# Altium integrated library NSC Legacy.IntLib: 687 symbols (part 3 of 17)
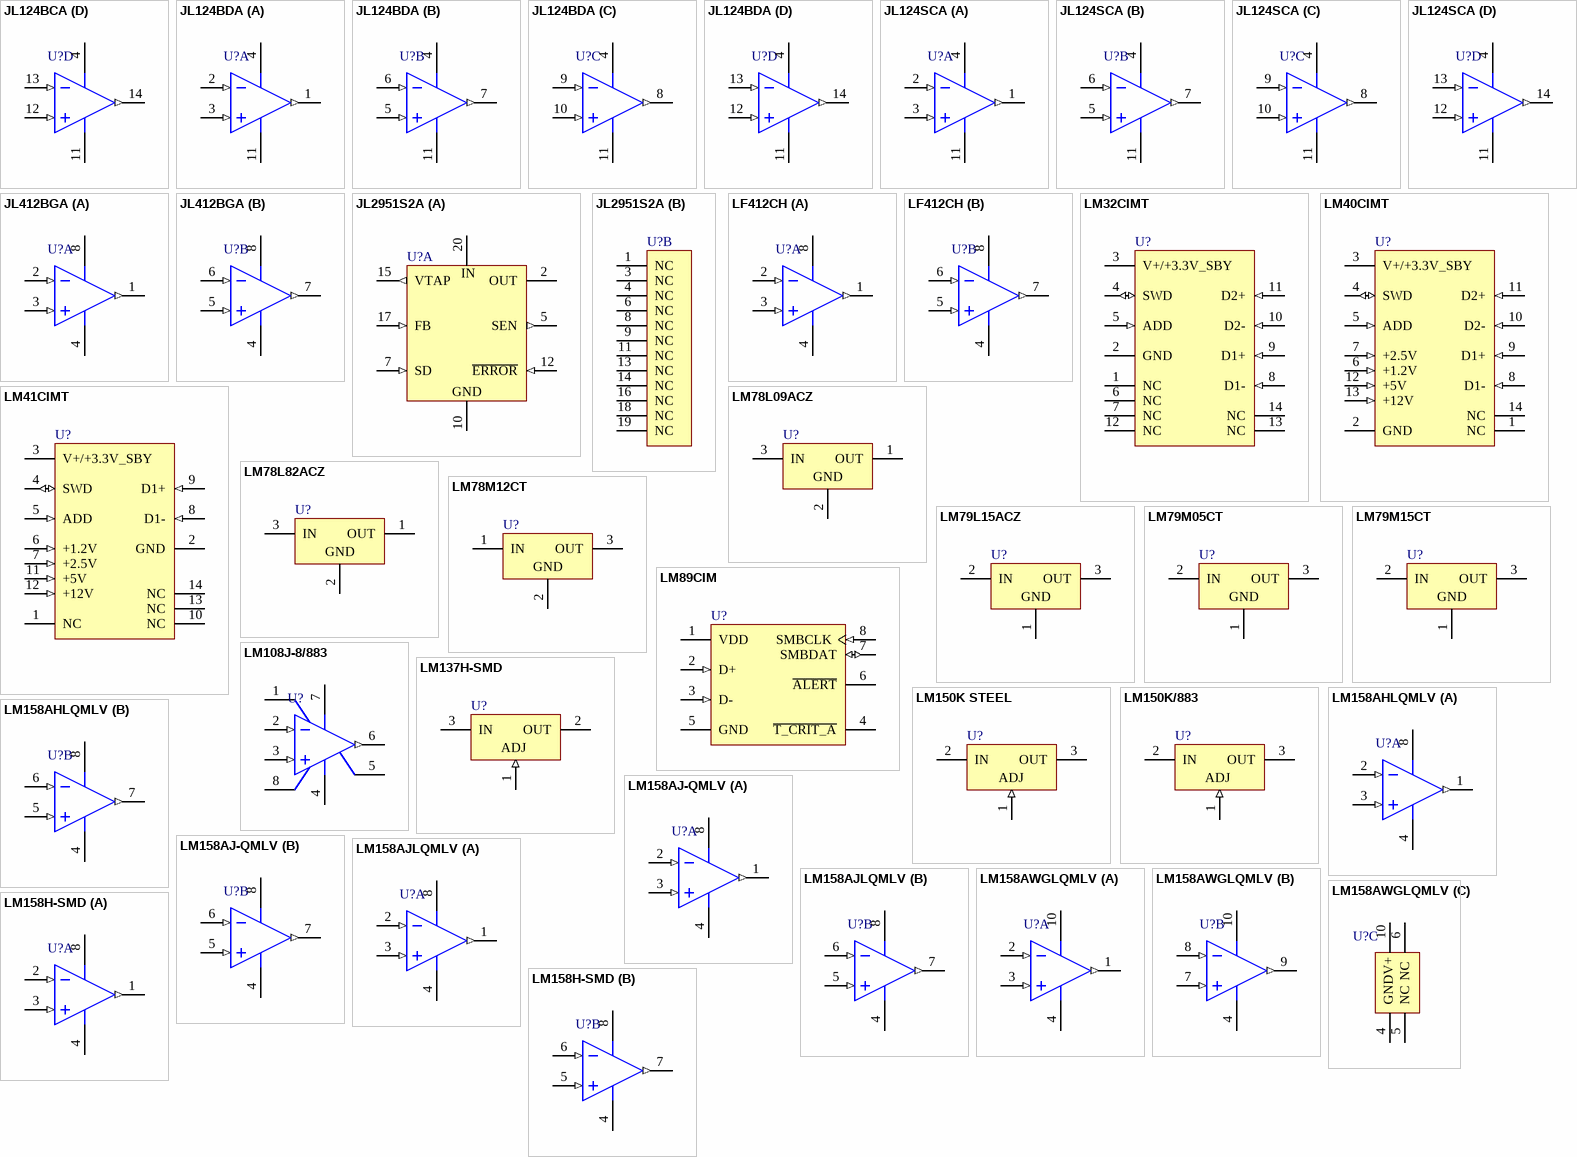
[diagram p26: symbols JL124BCA to LM158H-SMD]

## JL124BCA
designator U?
Low Power Quad Operational Amplifier, 14-pin CerDIP; PartNumber: JL124BCA; Manufacturer: National Semiconductor; PackageTopMarking: NS ZSSXXYYA*JM38510/11005BCA*27014 Q; CompType: Amplifiers; Published: 4-Dec-2008; DatasheetVersion: Aug-2000; PackageVersion: revJ, Jul-2002; PackageReference: J14A; Publisher: Altium Limited; PackageDescription: Cerdip, .400 x .310in Body, 14 Lead, .300in Centers, .100in Pitch; RoHS: N; PinCount: 14; ComponentLink1Description: LM124 Datasheet; ComponentLink1URL: http://www.national.com/ds/LM/LM124.pdf; ComponentLink2Description: LM124 Web Page; ComponentLink2URL: http://www.national.com/pf/LM/LM124.html; ComponentLink3Description: J14A Package Page; ComponentLink3URL: http://www.national.com/packaging/folders/j14a.html
footprint J14A (DIP, 14-Leads, Row Spacing 7.62mm, Pitch 2.54mm, Body 19.56x6.73mm)
pins on every part: 4 V+ (power), 11 GND (power)
part A pins: 1 OUT1 (out), 2 IN1- (in), 3 IN1+ (in)
part B pins: 5 IN2+ (in), 6 IN2- (in), 7 OUT2 (out)
part C pins: 8 OUT3 (out), 9 IN3- (in), 10 IN3+ (in)
part D pins: 12 IN4+ (in), 13 IN4- (in), 14 OUT4 (out)

## JL124BDA
designator U?
Low Power Quad Operational Amplifier, 14-pin CerPACK; PartNumber: JL124BDA; Manufacturer: National Semiconductor; PackageTopMarking: NSZSSXXYYA*JM38510/*11005BDA*27014 Q; CompType: Amplifiers; Published: 4-Dec-2008; DatasheetVersion: Aug-2000; PackageVersion: revP, Jun-2004; PackageReference: W14B; Publisher: Altium Limited; PackageDescription: Cerpack, .390 x .250 x .070in Body, 14 Lead, .050in Pitch; RoHS: N; PinCount: 14; Code_JEDEC: MO-092-AB; ComponentLink1Description: LM124 Datasheet; ComponentLink1URL: http://www.national.com/ds/LM/LM124.pdf; ComponentLink2Description: LM124 Web Page; ComponentLink2URL: http://www.national.com/pf/LM/LM124.html; ComponentLink3Description: W14B Package Page; ComponentLink3URL: http://www.national.com/packaging/folders/w14b.html
footprint W14B (DFP; 14 Leads; Body 9.8 x 7.1 mm (LxW max); Pitch 1.27 mm)
pins on every part: 4 V+ (power), 11 GND (power)
part A pins: 1 OUT1 (out), 2 IN1- (in), 3 IN1+ (in)
part B pins: 5 IN2+ (in), 6 IN2- (in), 7 OUT2 (out)
part C pins: 8 OUT3 (out), 9 IN3- (in), 10 IN3+ (in)
part D pins: 12 IN4+ (in), 13 IN4- (in), 14 OUT4 (out)

## JL124SCA
designator U?
Low Power Quad Operational Amplifier, 14-pin CerDIP; PartNumber: JL124SCA; Manufacturer: National Semiconductor; PackageTopMarking: NS ZSSXXYYA*JM38510/11005SCA*27014 Q; CompType: Amplifiers; Published: 4-Dec-2008; DatasheetVersion: Aug-2000; PackageVersion: revJ, Jul-2002; PackageReference: J14A; Publisher: Altium Limited; PackageDescription: Cerdip, .400 x .310in Body, 14 Lead, .300in Centers, .100in Pitch; RoHS: N; PinCount: 14; ComponentLink1Description: LM124 Datasheet; ComponentLink1URL: http://www.national.com/ds/LM/LM124.pdf; ComponentLink2Description: LM124 Web Page; ComponentLink2URL: http://www.national.com/pf/LM/LM124.html; ComponentLink3Description: J14A Package Page; ComponentLink3URL: http://www.national.com/packaging/folders/j14a.html
footprint J14A (DIP, 14-Leads, Row Spacing 7.62mm, Pitch 2.54mm, Body 19.56x6.73mm)
pins on every part: 4 V+ (power), 11 GND (power)
part A pins: 1 OUT1 (out), 2 IN1- (in), 3 IN1+ (in)
part B pins: 5 IN2+ (in), 6 IN2- (in), 7 OUT2 (out)
part C pins: 8 OUT3 (out), 9 IN3- (in), 10 IN3+ (in)
part D pins: 12 IN4+ (in), 13 IN4- (in), 14 OUT4 (out)

## JL412BGA
designator U?
Low Offset, Low Drift Dual JFET Input Operational Amplifier, 8-pin TO-99; PartNumber: JL412BGA; Manufacturer: National Semiconductor; PackageTopMarking: NS ZSSXXYYA 27014 Q*JM38510/11905BGA; CompType: Amplifiers; Published: 4-Dec-2008; DatasheetVersion: Aug-2000; PackageVersion: revF, Jun-1995; PackageReference: H08C; Publisher: Altium Limited; PackageDescription: Metal Can, TO-99, 8 Lead, .200 Dia., P.C.; RoHS: N; PinCount: 8; Code_JEDEC: TO-99; ComponentLink1Description: LF412 Datasheet; ComponentLink1URL: http://www.national.com/ds/LF/LF412.pdf; ComponentLink2Description: LF412 Web Page; ComponentLink2URL: http://www.national.com/pf/LF/LF412.html; ComponentLink3Description: H08C Package Page; ComponentLink3URL: http://www.national.com/packaging/folders/h08c.html
footprint H08C (Can; 8 Leads; Pin Circle Dia. 5.08 mm; Lead Dia. 0.48 mm (max))
pins on every part: 4 V- (power), 8 V+ (power)
part A pins: 1 OUTA (out), 2 INA- (in), 3 INA+ (in)
part B pins: 5 INB+ (in), 6 INB- (in), 7 OUTB (out)

## JL2951S2A
designator U?
Adjustable Micropower Voltage Regulator, 20-pin LCC; PartNumber: JL2951S2A; Manufacturer: National Semiconductor; PackageTopMarking: NSZSSXXYYA*27014 Q*5962-*3870501S2A; CompType: MiscPower; Published: 4-Dec-2008; DatasheetVersion: Jan-1997; PackageVersion: revF, May-2004; PackageReference: E20A; Publisher: Altium Limited; PackageDescription: Leadless Chip Carrier, Type C, 20 Terminal; RoHS: N; PinCount: 20; Code_JEDEC: MS-004-CB; ComponentLink1Description: LP2951 Datasheet; ComponentLink1URL: http://www.national.com/mds/LP/MJLP2951-X.pdf; ComponentLink2Description: LP2951 Web Page; ComponentLink2URL: http://www.national.com/pf/LP/LP2951.html; ComponentLink3Description: E20A Package Page; ComponentLink3URL: http://www.national.com/packaging/folders/e20a.html
footprint E20A_N (Leadless Chip Carrier, 20-Leads, Body 8.9x8.9mm, Pitch 1.27mm, IPC Medium Density)
footprint E20A_L (Leadless Chip Carrier, 20-Leads, Body 8.9x8.9mm, Pitch 1.27mm, IPC High Density)
footprint E20A_M (Leadless Chip Carrier, 20-Leads, Body 8.9x8.9mm, Pitch 1.27mm, IPC Low Density)
part A pins: 2 OUT (power), 5 SEN (out), 7 SD (in), 10 GND (power), 12 ~{ERROR} (in), 15 VTAP (out), 17 FB (in), 20 IN (power)
part B pins: 1 NC, 3 NC, 4 NC, 6 NC, 8 NC, 9 NC, 11 NC, 13 NC, 14 NC, 16 NC, 18 NC, 19 NC

## LF412CH
designator U?
Low Offset, Low Drift Dual JFET Input Operational Amplifier, 8-pin TO-5; PartNumber: LF412CH; Manufacturer: National Semiconductor; PackageTopMarking: NSZXYTTE# LF412CH; CompType: Amplifiers; Published: 4-Dec-2008; DatasheetVersion: Aug-2000; PackageVersion: revC, Sep-1988; PackageReference: H08A; Publisher: Altium Limited; PackageDescription: 8 Lead, .230in Dia., P.C. Metal Can Package (H); RoHS: Y; PinCount: 8; ComponentLink1Description: LF412 Datasheet; ComponentLink1URL: http://www.national.com/ds/LF/LF412.pdf; ComponentLink2Description: LF412 Web Page; ComponentLink2URL: http://www.national.com/pf/LF/LF412.html; ComponentLink3Description: H08A Package Page; ComponentLink3URL: http://www.national.com/packaging/folders/h08a.html
footprint H08A (Can; 8 Leads; Pin Circle Dia. 5.84 mm; Lead Dia. 0.48 mm (max))
pins on every part: 4 V- (power), 8 V+ (power)
part A pins: 1 OUTA (out), 2 INA- (in), 3 INA+ (in)
part B pins: 5 INB+ (in), 6 INB- (in), 7 OUTB (out)

## LM32CIMT
designator U?
Dual Thermal Diode Temperature Sensor with SensorPath Bus, 14-pin TSSOP; PartNumber: LM32CIMT; Manufacturer: National Semiconductor; PackageTopMarking: NSZXYTT*LM32*CIMT; CompType: Temp Sensor IC; Published: 4-Dec-2008; DatasheetVersion: May-2004; PackageVersion: revD, Jun-2003; PackageReference: MTC14; Publisher: Altium Limited; PackageDescription: Molded TSSOP, JEDEC, 5 x 4.4 x 0.9mm Body, 14 Lead, 0.65mm Pitch; Supplier 1: Farnell; Supplier Part Number 1: 8181780; RoHS: Y; PinCount: 14; Code_JEDEC: MO-153-AB-1; ComponentLink1Description: LM32 Datasheet; ComponentLink1URL: http://www.national.com/ds.cgi/LM/LM32.pdf; ComponentLink2Description: LM32 Web Page; ComponentLink2URL: http://www.national.com/pf/LM/LM32.html; ComponentLink3Description: MTC14 Package Page; ComponentLink3URL: http://www.national.com/packaging/folders/mtc14.html
footprint MTC14_N (TSOP, 14-Leads, Body 5x4.4mm, Pitch 0.65mm, IPC Medium Density)
footprint MTC14_L (TSOP, 14-Leads, Body 5x4.4mm, Pitch 0.65mm, IPC High Density)
footprint MTC14_M (TSOP, 14-Leads, Body 5x4.4mm, Pitch 0.65mm, IPC Low Density)
pins: 1 NC, 2 GND (power), 3 V+/+3.3V_SBY (power), 4 SWD (io), 5 ADD (in), 6 NC, 7 NC, 8 D1- (in), 9 D1+ (in), 10 D2- (in), 11 D2+ (in), 12 NC, 13 NC, 14 NC

## LM40CIMT
designator U?
Hardware Monitor with Dual Thermal Diodes and SensorPath Bus, 14-pin TSSOP; PartNumber: LM40CIMT; Manufacturer: National Semiconductor; PackageTopMarking: NSZXYTT*LM40*CIMT; CompType: Temp Sensor IC; Published: 4-Dec-2008; DatasheetVersion: May-2004; PackageVersion: revD, Jun-2003; PackageReference: MTC14; Publisher: Altium Limited; PackageDescription: Molded TSSOP, JEDEC, 5 x 4.4 x 0.9mm Body, 14 Lead, 0.65mm Pitch; Supplier 1: Farnell; Supplier Part Number 1: 8181799; RoHS: Y; PinCount: 14; Code_JEDEC: MO-153-AB-1; ComponentLink1Description: LM40 Datasheet; ComponentLink1URL: http://www.national.com/ds/LM/LM40.pdf; ComponentLink2Description: LM40 Web Page; ComponentLink2URL: http://www.national.com/pf/LM/LM40.html; ComponentLink3Description: MTC14 Package Page; ComponentLink3URL: http://www.national.com/packaging/folders/mtc14.html
footprint MTC14_N (TSOP, 14-Leads, Body 5x4.4mm, Pitch 0.65mm, IPC Medium Density)
footprint MTC14_L (TSOP, 14-Leads, Body 5x4.4mm, Pitch 0.65mm, IPC High Density)
footprint MTC14_M (TSOP, 14-Leads, Body 5x4.4mm, Pitch 0.65mm, IPC Low Density)
pins: 1 NC, 2 GND (power), 3 V+/+3.3V_SBY (power), 4 SWD (io), 5 ADD (in), 6 +1.2V (in), 7 +2.5V (in), 8 D1- (in), 9 D1+ (in), 10 D2- (in), 11 D2+ (in), 12 +5V (in), 13 +12V (in), 14 NC

## LM41CIMT
designator U?
Hardware Monitor with Thermal Diode Inputs and SensorPath Bus, 14-pin TSSOP; PartNumber: LM41CIMT; Manufacturer: National Semiconductor; PackageTopMarking: NSZXYTT*LM41*CIMT; CompType: Temp Sensor IC; Published: 4-Dec-2008; DatasheetVersion: May-2004; PackageVersion: revD, Jun-2003; PackageReference: MTC14; Publisher: Altium Limited; PackageDescription: Molded TSSOP, JEDEC, 5 x 4.4 x 0.9mm Body, 14 Lead, 0.65mm Pitch; Supplier 1: Farnell; Supplier Part Number 1: 8181594; RoHS: Y; PinCount: 14; Code_JEDEC: MO-153-AB-1; ComponentLink1Description: LM41 Datasheet; ComponentLink1URL: http://www.national.com/ds/LM/LM41.pdf; ComponentLink2Description: LM41 Web Page; ComponentLink2URL: http://www.national.com/pf/LM/LM41.html; ComponentLink3Description: MTC14 Package Page; ComponentLink3URL: http://www.national.com/packaging/folders/mtc14.html
footprint MTC14_N (TSOP, 14-Leads, Body 5x4.4mm, Pitch 0.65mm, IPC Medium Density)
footprint MTC14_L (TSOP, 14-Leads, Body 5x4.4mm, Pitch 0.65mm, IPC High Density)
footprint MTC14_M (TSOP, 14-Leads, Body 5x4.4mm, Pitch 0.65mm, IPC Low Density)
pins: 1 NC, 2 GND (power), 3 V+/+3.3V_SBY (power), 4 SWD (io), 5 ADD (in), 6 +1.2V (in), 7 +2.5V (in), 8 D1- (in), 9 D1+ (in), 10 NC, 11 +5V (in), 12 +12V (in), 13 NC, 14 NC

## LM78L09ACZ
designator U?
3-Terminal Positive Regulators, 3-pin TO-92; PartNumber: LM78L09ACZ; Manufacturer: National Semiconductor; PackageTopMarking: NSXYTT*LM78L*09ACZ; CompType: LDO IC; Published: 4-Dec-2008; DatasheetVersion: Apr-2006; PackageVersion: revG, Sep-2000; PackageReference: Z03A; Publisher: Altium Limited; PackageDescription: TO-92, Molded, 3 Lead; Supplier 1: Digi-Key; Supplier Part Number 1: LM78L09ACZ-ND; RoHS: O; PinCount: 3; Code_JEDEC: TO-226-AA; ComponentLink1Description: LM78L09 Datasheet; ComponentLink1URL: http://www.national.com/ds/LM/LM78L09.pdf; ComponentLink2Description: LM78L09 Web Page; ComponentLink2URL: http://www.national.com/pf/LM/LM78L09.html; ComponentLink3Description: Z03A Package Page; ComponentLink3URL: http://www.national.com/packaging/folders/z03a.html
footprint Z03A (TO, Flat Index; 3 In-Line, Axial Leads; Body Dia. 5mm; Leads 0.55 x 0.50 mm (max))
pins: 1 OUT (power), 2 GND (power), 3 IN (power)

## LM78L82ACZ
designator U?
3-Terminal Positive Regulators, 3-pin TO-92; PartNumber: LM78L82ACZ; Manufacturer: National Semiconductor; PackageTopMarking: NSXYTT*LM78L*82ACZ; CompType: LDO IC; Published: 4-Dec-2008; DatasheetVersion: Apr-2006; PackageVersion: revG, Sep-2000; PackageReference: Z03A; Publisher: Altium Limited; PackageDescription: TO-92, Molded, 3 Lead; Supplier 1: Digi-Key; Supplier Part Number 1: LM78L82ACZ-ND; Supplier 2: Farnell; Supplier Part Number 2: 9490256; RoHS: O; PinCount: 3; Code_JEDEC: TO-226-AA; ComponentLink1Description: LM78L82 Datasheet; ComponentLink1URL: http://www.national.com/ds/LM/LM78L82.pdf; ComponentLink2Description: LM78L82 Web Page; ComponentLink2URL: http://www.national.com/pf/LM/LM78L82.html; ComponentLink3Description: Z03A Package Page; ComponentLink3URL: http://www.national.com/packaging/folders/z03a.html
footprint Z03A (TO, Flat Index; 3 In-Line, Axial Leads; Body Dia. 5mm; Leads 0.55 x 0.50 mm (max))
pins: 1 OUT (power), 2 GND (power), 3 IN (power)

## LM78M12CT
designator U?
3-Terminal Positive Voltage Regulators, 3-pin TO-220; PartNumber: LM78M12CT; Manufacturer: National Semiconductor; PackageTopMarking: NSUZXYTTE#*LM341T-12*LM78M12CT; CompType: LDO IC; Published: 4-Dec-2008; DatasheetVersion: Aug-2005; PackageVersion: revL, Jan-1992; PackageReference: T03B; Publisher: Altium Limited; PackageDescription: TO-220, Molded, 3 Lead, Straight; RoHS: O; PinCount: 3; ComponentLink1Description: LM78M12 Datasheet; ComponentLink1URL: http://www.national.com/ds/LM/LM78M12.pdf; ComponentLink2Description: LM78M12 Web Page; ComponentLink2URL: http://www.national.com/pf/LM/LM78M12.html; ComponentLink3Description: T03B Package Page; ComponentLink3URL: http://www.national.com/packaging/folders/t03b.html
footprint T03B (TO, Thru-Hole, Vertical, Heatsink Mounted; 3 In-Line Leads; Pitch 2.54 mm)
pins: 1 IN (power), 2 GND (power), 3 OUT (power)

## LM79L15ACZ
designator U?
Series 3-Terminal Negative Regulators, 3-pin TO-92; PartNumber: LM79L15ACZ; Manufacturer: National Semiconductor; PackageTopMarking: NSXYTT*320L*79L15; CompType: LDO IC; Published: 4-Dec-2008; DatasheetVersion: Mar-2006; PackageVersion: revG, Sep-2000; PackageReference: Z03A; Publisher: Altium Limited; PackageDescription: TO-92, Molded, 3 Lead; Supplier 1: Farnell; Supplier Part Number 1: 9490434; RoHS: O; PinCount: 3; Code_JEDEC: TO-226-AA; ComponentLink1Description: LM79L15 Datasheet; ComponentLink1URL: http://www.national.com/ds/LM/LM79L15.pdf; ComponentLink2Description: LM79L15 Web Page; ComponentLink2URL: http://www.national.com/pf/LM/LM79L15.html; ComponentLink3Description: Z03A Package Page; ComponentLink3URL: http://www.national.com/packaging/folders/z03a.html
footprint Z03A (TO, Flat Index; 3 In-Line, Axial Leads; Body Dia. 5mm; Leads 0.55 x 0.50 mm (max))
pins: 1 GND (power), 2 IN (power), 3 OUT (power)

## LM79M05CT
designator U?
3-Terminal Negative Regulators, 3-pin TO-220; PartNumber: LM79M05CT; Manufacturer: National Semiconductor; PackageTopMarking: NSUZXYTTE#*LM79M*05CT; CompType: LDO IC; Published: 4-Dec-2008; DatasheetVersion: Sep-2001; PackageVersion: revL, Jan-1992; PackageReference: T03B; Publisher: Altium Limited; PackageDescription: TO-220, Molded, 3 Lead, Straight; Supplier 1: Farnell; Supplier Part Number 1: 9490353; RoHS: O; PinCount: 3; ComponentLink1Description: LM79M05 Datasheet; ComponentLink1URL: http://www.national.com/ds/LM/LM79M05.pdf; ComponentLink2Description: LM79M05 Web Page; ComponentLink2URL: http://www.national.com/pf/LM/LM79M05.html; ComponentLink3Description: T03B Package Page; ComponentLink3URL: http://www.national.com/packaging/folders/t03b.html
footprint T03B (TO, Thru-Hole, Vertical, Heatsink Mounted; 3 In-Line Leads; Pitch 2.54 mm)
pins: 1 GND (power), 2 IN (power), 3 OUT (power)

## LM79M15CT
designator U?
3-Terminal Negative Regulators, 3-pin TO-220; PartNumber: LM79M15CT; Manufacturer: National Semiconductor; PackageTopMarking: NSUZXYTTE#*LM79M*15CT; CompType: LDO IC; Published: 4-Dec-2008; DatasheetVersion: Sep-2001; PackageVersion: revL, Jan-1992; PackageReference: T03B; Publisher: Altium Limited; PackageDescription: TO-220, Molded, 3 Lead, Straight; Supplier 1: Farnell; Supplier Part Number 1: 9490442; RoHS: O; PinCount: 3; ComponentLink1Description: LM79M15 Datasheet; ComponentLink1URL: http://www.national.com/ds/LM/LM79M15.pdf; ComponentLink2Description: LM79M15 Web Page; ComponentLink2URL: http://www.national.com/pf/LM/LM79M15.html; ComponentLink3Description: T03B Package Page; ComponentLink3URL: http://www.national.com/packaging/folders/t03b.html
footprint T03B (TO, Thru-Hole, Vertical, Heatsink Mounted; 3 In-Line Leads; Pitch 2.54 mm)
pins: 1 GND (power), 2 IN (power), 3 OUT (power)

## LM89CIM
designator U?
±0.75ºC Accurate, Remote Diode and Local Digital Temperature Sensor with Two-Wire Interface, 8-pin Narrow SOIC; PartNumber: LM89CIM; Manufacturer: National Semiconductor; PackageTopMarking: NSZXTT*LM89*CIM; CompType: Temp Sensor IC; Published: 4-Dec-2008; DatasheetVersion: Dec-2004; PackageVersion: revM, May-2009; PackageReference: M08A; Publisher: Altium Limited; PackageDescription: SOIC Narrow, 4.9 x 3.9 x 1.45mm, 8 Lead, 1.27mm Pitch; RoHS: Y; PinCount: 8; Code_JEDEC: MS-012-AA; Code_IPC: SOIC127P600-8; ComponentLink1Description: LM89 Datasheet; ComponentLink1URL: http://www.national.com/ds/LM/LM89.pdf; ComponentLink2Description: LM89 Web Page; ComponentLink2URL: http://www.national.com/pf/LM/LM89.html; ComponentLink3Description: M08A Package Page; ComponentLink3URL: http://www.national.com/packaging/folders/m08a.html
footprint M08A_N (SOIC, 8-Leads, Body 4.9x3.9mm, Pitch 1.27mm, IPC Medium Density)
footprint M08A_L (SOIC, 8-Leads, Body 4.9x3.9mm, Pitch 1.27mm, IPC High Density)
footprint M08A_M (SOIC, 8-Leads, Body 4.9x3.9mm, Pitch 1.27mm, IPC Low Density)
pins: 1 VDD (power), 2 D+ (in), 3 D- (in), 4 ~{T_CRIT_A} (oc), 5 GND (power), 6 ~{ALERT} (oc), 7 SMBDAT (io), 8 SMBCLK (in)

## LM108J-8/883
designator U?
Operational Amplifier, 8-pin CerDIP; PartNumber: LM108J-8/883; Manufacturer: National Semiconductor; PackageTopMarking: NSZSSXXYYA*LM108J-8*/883 Q; CompType: Amplifiers; Published: 4-Dec-2008; DatasheetVersion: Dec-2005; PackageVersion: revM, Jul-2002; PackageReference: J08A; Publisher: Altium Limited; PackageDescription: Cerdip, .400 x .310in Body, 8 Lead, .300in Centers, .100in Pitch; RoHS: N; PinCount: 8; ComponentLink1Description: LM108 Datasheet; ComponentLink1URL: http://www.national.com/ds/LM/LM108.pdf; ComponentLink2Description: LM108 Web Page; ComponentLink2URL: http://www.national.com/pf/LM/LM108.html; ComponentLink3Description: J08A Package Page; ComponentLink3URL: http://www.national.com/packaging/folders/j08a.html
footprint J08A (DIP, 8-Leads, Row Spacing 7.62mm, Pitch 2.54mm, Body 9.78x6.73mm)
pins: 1 COMP1, 2 IN- (in), 3 IN+ (in), 4 V- (power), 5 NC, 6 OUT (out), 7 V+ (power), 8 COMP2

## LM137H-SMD
designator U?
3-Terminal Adjustable Negative Regulator, 3-pin TO-39; PartNumber: LM137H-SMD; Manufacturer: National Semiconductor; PackageTopMarking: NS ZSSXXYYA Q*27014 7703403XA; CompType: LDO IC; Published: 4-Dec-2008; DatasheetVersion: Nov-2004; PackageVersion: revD, Feb-1995; PackageReference: H03A; Publisher: Altium Limited; PackageDescription: Metal Can, TO-39, 3 Lead, .200in Dia, P.C.; RoHS: N; PinCount: 3; Code_JEDEC: TO-39; ComponentLink1Description: LM137 Datasheet; ComponentLink1URL: http://www.national.com/ds/LM/LM137.pdf; ComponentLink2Description: LM137 Web Page; ComponentLink2URL: http://www.national.com/pf/LM/LM137.html; ComponentLink3Description: H03A Package Page; ComponentLink3URL: http://www.national.com/packaging/folders/h03a.html
footprint H03A (Can; 3 Leads; Pin Circle Dia. 5.08 mm; Lead Dia. 0.48 mm (max))
pins: 1 ADJ (in), 2 OUT (power), 3 IN (power)

## LM150K STEEL
designator U?
3-Amp Adjustable Regulator, 3-pin TO-3; PartNumber: LM150K STEEL; Manufacturer: National Semiconductor; PackageTopMarking: NS*ZXYTTE#*LM150K*STEELP+; CompType: MiscPower; Published: 4-Dec-2008; DatasheetVersion: May-1998; PackageVersion: revG, Oct-1991; PackageReference: K02A; Publisher: Altium Limited; PackageDescription: Metal Can (KA) TO-3, 2 Lead; RoHS: O; PinCount: 2; ComponentLink1Description: LM150 Datasheet; ComponentLink1URL: http://www.national.com/ds/LM/LM150.pdf; ComponentLink2Description: LM150 Web Page; ComponentLink2URL: http://www.national.com/pf/LM/LM150.html; ComponentLink3Description: K02A Package Page; ComponentLink3URL: http://www.national.com/packaging/folders/k02a.html
footprint K02A (Oval Flange Mount with (2) Offset Leads; Pin Spacing 10.93 mm; Lead Dia. 1.09 mm (max))
pins: 1 ADJ (in), 2 IN (power), 3 OUT (power)

## LM150K/883
designator U?
3-Amp Adjustable Regulator, 3-pin TO-3; PartNumber: LM150K/883; Manufacturer: National Semiconductor; PackageTopMarking: NS ZSSXXYYA*LM150K/883*Q 5962-*8767501XA; CompType: LDO IC; Published: 4-Dec-2008; DatasheetVersion: May-1998; PackageVersion: revE, Sep-1995; PackageReference: K02C; Publisher: Altium Limited; PackageDescription: Metal Can TO-3, 2 Lead, Low Profile; RoHS: N; PinCount: 2; ComponentLink1Description: LM150 Datasheet; ComponentLink1URL: http://www.national.com/ds/LM/LM150.pdf; ComponentLink2Description: LM150 Web Page; ComponentLink2URL: http://www.national.com/pf/LM/LM150.html; ComponentLink3Description: K02C Package Page; ComponentLink3URL: http://www.national.com/packaging/folders/k02c.html
footprint K02C (Oval Flange Mount with (2) Offset Leads; Pin Spacing 10.92 mm; Lead Dia. 1.09 mm (max))
pins: 1 ADJ (in), 2 IN (power), 3 OUT (power)

## LM158AHLQMLV
designator U?
Low Power Dual Operational Amplifier, 8-pin TO-99; PartNumber: LM158AHLQMLV; Manufacturer: National Semiconductor; PackageTopMarking: NS ZSSXXYYA LM158AHLQV Q*5962L8771002VGA; CompType: Amplifiers; Published: 4-Dec-2008; DatasheetVersion: Oct-2005; PackageVersion: revF, Jun-1995; PackageReference: H08C; Publisher: Altium Limited; PackageDescription: Metal Can, TO-99, 8 Lead, .200 Dia., P.C.; RoHS: N; PinCount: 8; Code_JEDEC: TO-99; ComponentLink1Description: LM158 Datasheet; ComponentLink1URL: http://www.national.com/ds/LM/LM158.pdf; ComponentLink2Description: LM158 Web Page; ComponentLink2URL: http://www.national.com/pf/LM/LM158.html; ComponentLink3Description: H08C Package Page; ComponentLink3URL: http://www.national.com/packaging/folders/h08c.html
footprint H08C (Can; 8 Leads; Pin Circle Dia. 5.08 mm; Lead Dia. 0.48 mm (max))
pins on every part: 4 GND (power), 8 V+ (power)
part A pins: 1 OUTA (out), 2 INA- (in), 3 INA+ (in)
part B pins: 5 INB+ (in), 6 INB- (in), 7 OUTB (out)

## LM158AJ-QMLV
designator U?
Low Power Dual Operational Amplifier, 8-pin CerDIP; PartNumber: LM158AJ-QMLV; Manufacturer: National Semiconductor; PackageTopMarking: NSZSSXXYYA*LM158AJ-QV Q*5962-*8771002VPA; CompType: Amplifiers; Published: 4-Dec-2008; DatasheetVersion: Oct-2005; PackageVersion: revM, Jul-2002; PackageReference: J08A; Publisher: Altium Limited; PackageDescription: Cerdip, .400 x .310in Body, 8 Lead, .300in Centers, .100in Pitch; RoHS: N; PinCount: 8; ComponentLink1Description: LM158 Datasheet; ComponentLink1URL: http://www.national.com/ds/LM/LM158.pdf; ComponentLink2Description: LM158 Web Page; ComponentLink2URL: http://www.national.com/pf/LM/LM158.html; ComponentLink3Description: J08A Package Page; ComponentLink3URL: http://www.national.com/packaging/folders/j08a.html
footprint J08A (DIP, 8-Leads, Row Spacing 7.62mm, Pitch 2.54mm, Body 9.78x6.73mm)
pins on every part: 4 GND (power), 8 V+ (power)
part A pins: 1 OUTA (out), 2 INA- (in), 3 INA+ (in)
part B pins: 5 INB+ (in), 6 INB- (in), 7 OUTB (out)

## LM158AJLQMLV
designator U?
Low Power Dual Operational Amplifier, 8-pin CerDIP; PartNumber: LM158AJLQMLV; Manufacturer: National Semiconductor; PackageTopMarking: NSZSSXXYYA*LM158AJLQV Q*5962L8771002*VPA; CompType: Amplifiers; Published: 4-Dec-2008; DatasheetVersion: Oct-2005; PackageVersion: revM, Jul-2002; PackageReference: J08A; Publisher: Altium Limited; PackageDescription: Cerdip, .400 x .310in Body, 8 Lead, .300in Centers, .100in Pitch; RoHS: N; PinCount: 8; ComponentLink1Description: LM158 Datasheet; ComponentLink1URL: http://www.national.com/ds/LM/LM158.pdf; ComponentLink2Description: LM158 Web Page; ComponentLink2URL: http://www.national.com/pf/LM/LM158.html; ComponentLink3Description: J08A Package Page; ComponentLink3URL: http://www.national.com/packaging/folders/j08a.html
footprint J08A (DIP, 8-Leads, Row Spacing 7.62mm, Pitch 2.54mm, Body 9.78x6.73mm)
pins on every part: 4 GND (power), 8 V+ (power)
part A pins: 1 OUTA (out), 2 INA- (in), 3 INA+ (in)
part B pins: 5 INB+ (in), 6 INB- (in), 7 OUTB (out)

## LM158AWGLQMLV
designator U?
Low Power Dual Operational Amplifier, 10-pin CerPACK; PartNumber: LM158AWGLQMLV; Manufacturer: National Semiconductor; PackageTopMarking: NSZSSXXYY*LM158AW*GLQV Q*5962L877*1002VXAA; CompType: Amplifiers; Published: 29-May-2009; DatasheetVersion: Jan-2009; PackageVersion: revF, Oct-2008; PackageReference: WG10A; Publisher: Altium Limited; PackageDescription: Cerpack, .270 x .241 x .070in, 10 Lead, .050in Pitch, Gull Wing; RoHS: N; PinCount: 10; ComponentLink1Description: LM158 Datasheet; ComponentLink1URL: http://www.national.com/ds/LM/LM158QML.pdf; ComponentLink2Description: LM158 Web Page; ComponentLink2URL: http://www.national.com/pf/LM/LM158.html; ComponentLink3Description: WG10A Package Page; ComponentLink3URL: http://www.national.com/packaging/folders/wg10a.html
footprint WG10A_N (CERPACK, 10-Leads, Body 6.9x6.3mm, Pitch 1.27mm, IPC Medium Density)
footprint WG10A_L (CERPACK, 10-Leads, Body 6.9x6.3mm, Pitch 1.27mm, IPC High Density)
footprint WG10A_M (CERPACK, 10-Leads, Body 6.9x6.3mm, Pitch 1.27mm, IPC Low Density)
pins on every part: 4 GND (power), 10 V+ (power)
part A pins: 1 OUTA (out), 2 INA- (in), 3 INA+ (in)
part B pins: 7 INB+ (in), 8 INB- (in), 9 OUTB (out)
part C pins: 5 NC, 6 NC

## LM158H-SMD
designator U?
Low Power Dual Operational Amplifier, 8-pin TO-99; PartNumber: LM158H-SMD; Manufacturer: National Semiconductor; PackageTopMarking: NS ZSSXXYYA Q*5962-8771001GA; CompType: Amplifiers; Published: 4-Dec-2008; DatasheetVersion: Oct-2005; PackageVersion: revF, Jun-1995; PackageReference: H08C; Publisher: Altium Limited; PackageDescription: Metal Can, TO-99, 8 Lead, .200 Dia., P.C.; RoHS: N; PinCount: 8; Code_JEDEC: TO-99; ComponentLink1Description: LM158 Datasheet; ComponentLink1URL: http://www.national.com/ds/LM/LM158.pdf; ComponentLink2Description: LM158 Web Page; ComponentLink2URL: http://www.national.com/pf/LM/LM158.html; ComponentLink3Description: H08C Package Page; ComponentLink3URL: http://www.national.com/packaging/folders/h08c.html
footprint H08C (Can; 8 Leads; Pin Circle Dia. 5.08 mm; Lead Dia. 0.48 mm (max))
pins on every part: 4 GND (power), 8 V+ (power)
part A pins: 1 OUTA (out), 2 INA- (in), 3 INA+ (in)
part B pins: 5 INB+ (in), 6 INB- (in), 7 OUTB (out)

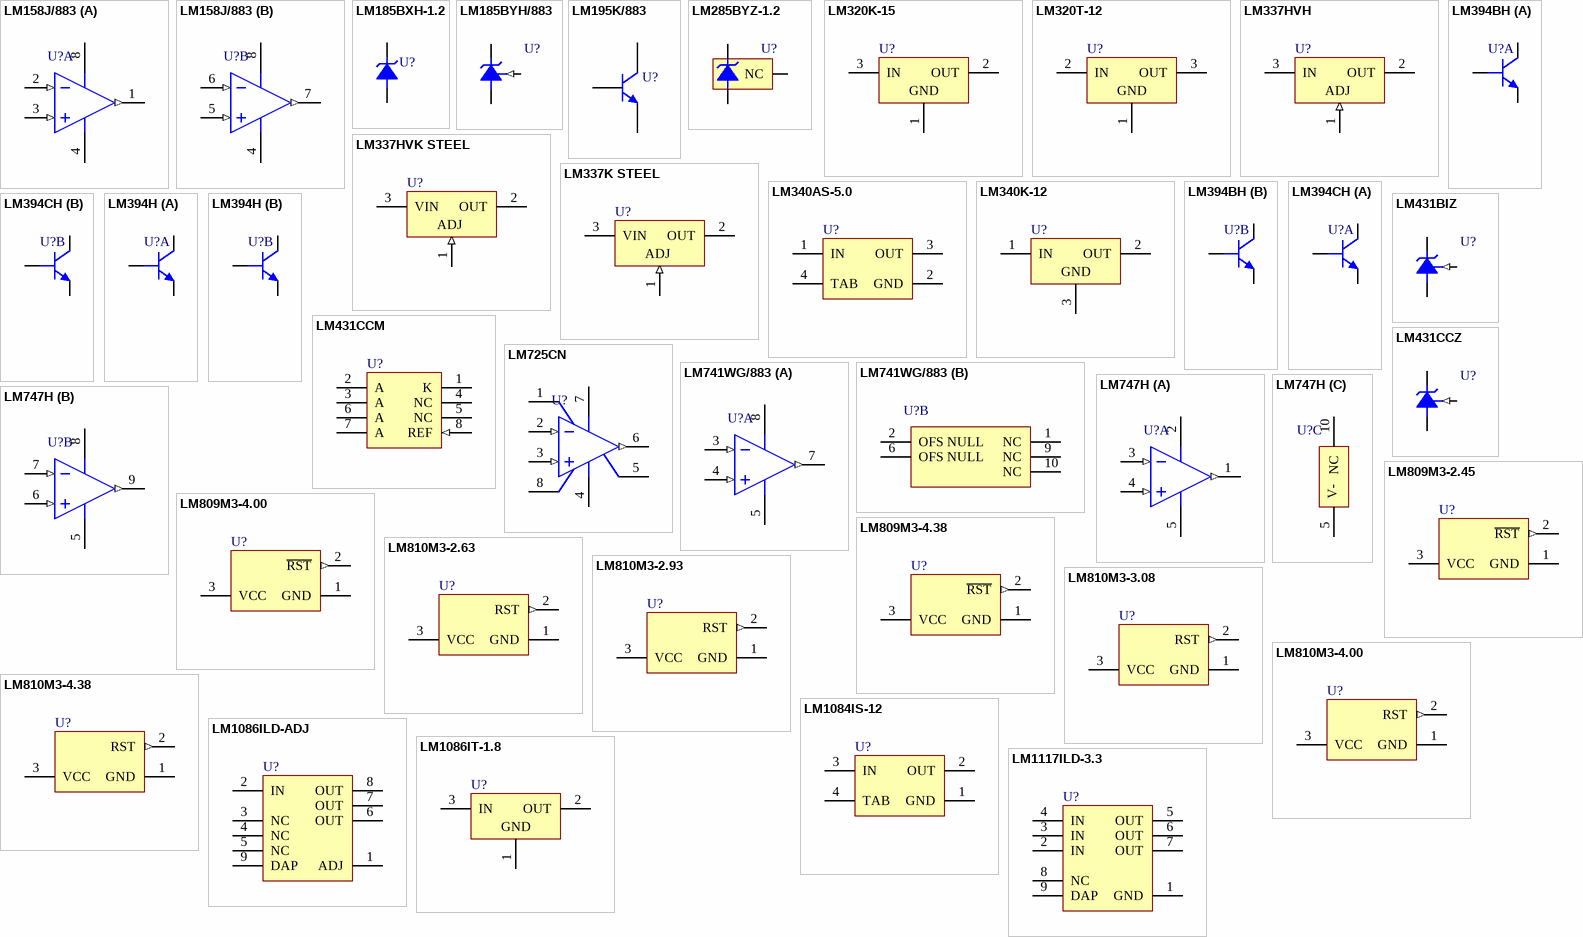
[diagram p6: symbols LM158J/883 to LM1117ILD-3.3]

## LM158J/883
designator U?
Low Power Dual Operational Amplifier, 8-pin CerDIP; PartNumber: LM158J/883; Manufacturer: National Semiconductor; PackageTopMarking: NSZSSXXYYA*LM158J/883*Q 5962-*8771001PA; CompType: Amplifiers; Published: 4-Dec-2008; DatasheetVersion: Oct-2005; PackageVersion: revM, Jul-2002; PackageReference: J08A; Publisher: Altium Limited; PackageDescription: Cerdip, .400 x .310in Body, 8 Lead, .300in Centers, .100in Pitch; RoHS: N; PinCount: 8; ComponentLink1Description: LM158 Datasheet; ComponentLink1URL: http://www.national.com/ds/LM/LM158.pdf; ComponentLink2Description: LM158 Web Page; ComponentLink2URL: http://www.national.com/pf/LM/LM158.html; ComponentLink3Description: J08A Package Page; ComponentLink3URL: http://www.national.com/packaging/folders/j08a.html
footprint J08A (DIP, 8-Leads, Row Spacing 7.62mm, Pitch 2.54mm, Body 9.78x6.73mm)
pins on every part: 4 GND (power), 8 V+ (power)
part A pins: 1 OUTA (out), 2 INA- (in), 3 INA+ (in)
part B pins: 5 INB+ (in), 6 INB- (in), 7 OUTB (out)

## LM185BXH-1.2
designator U?
Micropower Voltage Reference Diode, 2-pin TO-46; PartNumber: LM185BXH-1.2; Manufacturer: National Semiconductor; PackageTopMarking: NSXYTTE# LM185BXH1.2; PowerWise: N; CompType: Voltage Reference IC; Published: 4-Dec-2008; DatasheetVersion: Jan-2008; PackageVersion: revF, Apr-2002; PackageReference: H02A; Publisher: Altium Limited; PackageDescription: Metal Can, TO-46, 2 Lead, .100in Dia, P.C.; RoHS: N; PinCount: 2; Code_JEDEC: TO-46; ComponentLink1Description: LM185-1.2 Datasheet; ComponentLink1URL: http://www.national.com/ds/LM/LM185-1.2.pdf; ComponentLink2Description: LM185-1.2 Web Page; ComponentLink2URL: http://www.national.com/pf/LM/LM185-1.2.html; ComponentLink3Description: H02A Package Page; ComponentLink3URL: http://www.national.com/packaging/folders/h02a.html
footprint H02A (Can; 2 Leads; Pin Circle Dia. 2.54 mm; Lead Dia. 0.48 mm (max))
pins: 1 V+ (power), 2 V- (power)

## LM185BYH/883
designator U?
Adjustable Micropower Voltage Reference, 3-pin TO-46; PartNumber: LM185BYH/883; Manufacturer: National Semiconductor; PackageTopMarking: NSZSSXXYYA LM185BYHQ Q; PowerWise: N; CompType: Voltage Reference IC; Published: 4-Dec-2008; DatasheetVersion: Jan-2008; PackageVersion: revF, Apr-2002; PackageReference: H03H; Publisher: Altium Limited; PackageDescription: Metal Can, TO-46, 3 Lead, .100in Dia, P.C.; RoHS: N; PinCount: 3; Code_JEDEC: TO-46; ComponentLink1Description: LM185-ADJ Datasheet; ComponentLink1URL: http://www.national.com/ds/LM/LM185-ADJ.pdf; ComponentLink2Description: LM185-ADJ Web Page; ComponentLink2URL: http://www.national.com/pf/LM/LM185-ADJ.html; ComponentLink3Description: H03H Package Page; ComponentLink3URL: http://www.national.com/packaging/folders/h03h.html
footprint H03H (Can; 3 Leads; Pin Circle Dia. 2.54 mm; Lead Dia. 0.48 mm (max))
pins: 1 FB (in), 2 +V, 3 -V

## LM195K/883
designator U?
Ultra Reliable Power Transistor, 3-pin TO-3; PartNumber: LM195K/883; Manufacturer: National Semiconductor; PackageTopMarking: NS ZSSXXYYA*LM195K/883*Q 5962-*8777801YA; CompType: MiscPower; Published: 4-Dec-2008; DatasheetVersion: Jul-2000; PackageVersion: revE, Sep-1995; PackageReference: K02C; Publisher: Altium Limited; PackageDescription: Metal Can TO-3, 2 Lead, Low Profile; RoHS: N; PinCount: 2; ComponentLink1Description: LM195 Datasheet; ComponentLink1URL: http://www.national.com/ds/LM/LM195.pdf; ComponentLink2Description: LM195 Web Page; ComponentLink2URL: http://www.national.com/pf/LM/LM195.html; ComponentLink3Description: K02C Package Page; ComponentLink3URL: http://www.national.com/packaging/folders/k02c.html
footprint K02C (Oval Flange Mount with (2) Offset Leads; Pin Spacing 10.92 mm; Lead Dia. 1.09 mm (max))
pins: 1 B, 2 C, 3 E

## LM285BYZ-1.2
designator U?
Micropower Voltage Reference Diode, 3-pin TO-92; PartNumber: LM285BYZ-1.2; Manufacturer: National Semiconductor; PackageTopMarking: NSXYTT*285BY*Z-1.2; CompType: Voltage Reference IC; Published: 4-Dec-2008; LatestRevisionDate: 15-Jul-2009; LatestRevisionNote: Sch pins 1 & 3 reversed.; DatasheetVersion: Jan-2008; PackageVersion: revG, Sep-2000; PackageReference: Z03A; Publisher: Altium Limited; PackageDescription: TO-92, Molded, 3 Lead; RoHS: N; PinCount: 3; Code_JEDEC: TO-226-AA; ComponentLink1Description: LM285-1.2 Datasheet; ComponentLink1URL: http://www.national.com/ds/LM/LM285-1.2.pdf; ComponentLink2Description: LM285-1.2 Web Page; ComponentLink2URL: http://www.national.com/pf/LM/LM285-1.2.html; ComponentLink3Description: Z03A Package Page; ComponentLink3URL: http://www.national.com/packaging/folders/z03a.html
footprint Z03A (TO, Flat Index; 3 In-Line, Axial Leads; Body Dia. 5mm; Leads 0.55 x 0.50 mm (max))
pins: 1 NC, 2 +V, 3 -V

## LM320K-15
designator U?
Series 3-Terminal Negative Regulators, 3-pin TO-3; PartNumber: LM320K-15; Manufacturer: National Semiconductor; PackageTopMarking: NS*ZXYTTE#*LM320K*-15P+; CompType: LDO IC; Published: 4-Dec-2008; DatasheetVersion: Nov-2007; PackageVersion: revG, Oct-1991; PackageReference: K02A; Publisher: Altium Limited; PackageDescription: Metal Can (KA) TO-3, 2 Lead; Supplier 1: Digi-Key; Supplier Part Number 1: LM320K-15-ND; Supplier 2: Farnell; Supplier Part Number 2: 1321356; RoHS: O; PinCount: 2; ComponentLink1Description: LM320 Datasheet; ComponentLink1URL: http://www.national.com/ds/LM/LM320.pdf; ComponentLink2Description: LM320 Web Page; ComponentLink2URL: http://www.national.com/pf/LM/LM320.html; ComponentLink3Description: K02A Package Page; ComponentLink3URL: http://www.national.com/packaging/folders/k02a.html
footprint K02A (Oval Flange Mount with (2) Offset Leads; Pin Spacing 10.93 mm; Lead Dia. 1.09 mm (max))
pins: 1 GND (power), 2 OUT (power), 3 IN (power)

## LM320T-12
designator U?
Series 3-Terminal Negative Regulators, 3-pin TO-220; PartNumber: LM320T-12; Manufacturer: National Semiconductor; PackageTopMarking: NSUZXYTTE#*LM320T*-12 P+; CompType: LDO IC; Published: 4-Dec-2008; DatasheetVersion: Nov-2007; PackageVersion: revL, Jan-1992; PackageReference: T03B; Publisher: Altium Limited; PackageDescription: TO-220, Molded, 3 Lead, Straight; Supplier 1: Farnell; Supplier Part Number 1: 9490418; RoHS: O; PinCount: 3; ComponentLink1Description: LM320 Datasheet; ComponentLink1URL: http://www.national.com/ds/LM/LM320.pdf; ComponentLink2Description: LM320 Web Page; ComponentLink2URL: http://www.national.com/pf/LM/LM320.html; ComponentLink3Description: T03B Package Page; ComponentLink3URL: http://www.national.com/packaging/folders/t03b.html
footprint T03B (TO, Thru-Hole, Vertical, Heatsink Mounted; 3 In-Line Leads; Pitch 2.54 mm)
pins: 1 GND (power), 2 IN (power), 3 OUT (power)

## LM337HVH
designator U?
3-Terminal Adjustable Negative Regulator (High Voltage), 3-pin TO-39; PartNumber: LM337HVH; Manufacturer: National Semiconductor; PackageTopMarking: NSZXYTTE# LM337HVH; CompType: LDO IC; Published: 4-Dec-2008; DatasheetVersion: May-1999; PackageVersion: revD, Feb-1995; PackageReference: H03A; Publisher: Altium Limited; PackageDescription: Metal Can, TO-39, 3 Lead, .200in Dia, P.C.; RoHS: O; PinCount: 3; Code_JEDEC: TO-39; ComponentLink1Description: LM337HV Datasheet; ComponentLink1URL: http://www.national.com/ds/LM/LM337HV.pdf; ComponentLink2Description: LM337HV Web Page; ComponentLink2URL: http://www.national.com/pf/LM/LM337HV.html; ComponentLink3Description: H03A Package Page; ComponentLink3URL: http://www.national.com/packaging/folders/h03a.html
footprint H03A (Can; 3 Leads; Pin Circle Dia. 5.08 mm; Lead Dia. 0.48 mm (max))
pins: 1 ADJ (in), 2 OUT (power), 3 IN (power)

## LM337HVK STEEL
designator U?
3-Terminal Adjustable Negative Regulator (High Voltage), 3-pin TO-3; PartNumber: LM337HVK STEEL; Manufacturer: National Semiconductor; PackageTopMarking: NS*ZXYTTE#*LM337HVK*STEEL; CompType: MiscPower; Published: 4-Dec-2008; DatasheetVersion: May-1999; PackageVersion: revG, Oct-1991; PackageReference: K02A; Publisher: Altium Limited; PackageDescription: Metal Can (KA) TO-3, 2 Lead; RoHS: O; PinCount: 2; ComponentLink1Description: LM337HV Datasheet; ComponentLink1URL: http://www.national.com/ds/LM/LM337HV.pdf; ComponentLink2Description: LM337HV Web Page; ComponentLink2URL: http://www.national.com/pf/LM/LM337HV.html; ComponentLink3Description: K02A Package Page; ComponentLink3URL: http://www.national.com/packaging/folders/k02a.html
footprint K02A (Oval Flange Mount with (2) Offset Leads; Pin Spacing 10.93 mm; Lead Dia. 1.09 mm (max))
pins: 1 ADJ (in), 2 OUT (power), 3 VIN (power)

## LM337K STEEL
designator U?
3-Terminal Adjustable Negative Regulator, 3-pin TO-3; PartNumber: LM337K STEEL; Manufacturer: National Semiconductor; PackageTopMarking: NS*ZXYTTE#*LM337K*STEEL; CompType: MiscPower; Published: 4-Dec-2008; DatasheetVersion: Nov-2004; PackageVersion: revG, Oct-1991; PackageReference: K02A; Publisher: Altium Limited; PackageDescription: Metal Can (KA) TO-3, 2 Lead; RoHS: O; PinCount: 2; ComponentLink1Description: LM337 Datasheet; ComponentLink1URL: http://www.national.com/ds/LM/LM337.pdf; ComponentLink2Description: LM337 Web Page; ComponentLink2URL: http://www.national.com/pf/LM/LM337.html; ComponentLink3Description: K02A Package Page; ComponentLink3URL: http://www.national.com/packaging/folders/k02a.html
footprint K02A (Oval Flange Mount with (2) Offset Leads; Pin Spacing 10.93 mm; Lead Dia. 1.09 mm (max))
pins: 1 ADJ (in), 2 OUT (power), 3 VIN (power)

## LM340AS-5.0
designator U?
Series 3-Terminal Positive Regulators, 3-pin TO-263; PartNumber: LM340AS-5.0; Manufacturer: National Semiconductor; PackageTopMarking: NSUZXYTTE#*LM340AS*-5.0 P+; CompType: LDO IC; Published: 4-Dec-2008; DatasheetVersion: Jul-2006; PackageVersion: revF, Apr-2005; PackageReference: TS3B; Publisher: Altium Limited; PackageDescription: TO-263, Molded, .400 x .390 x .180in, 3 Lead, .1in Pitch, Surface Mount; RoHS: O; PinCount: 3; Code_JEDEC: MO-169-AA; ComponentLink1Description: LM340 Datasheet; ComponentLink1URL: http://www.national.com/ds/LM/LM340.pdf; ComponentLink2Description: LM340 Web Page; ComponentLink2URL: http://www.national.com/pf/LM/LM340.html; ComponentLink3Description: TS3B Package Page; ComponentLink3URL: http://www.national.com/packaging/folders/ts3b.html
footprint TS3B_N (D2-PAK, 4-Leads, Body 8.6x10.2mm, Pitch 2.54mm, Lead Span 14.2mm, IPC Medium Density)
footprint TS3B_L (D2-PAK, 4-Leads, Body 8.6x10.2mm, Pitch 2.54mm, Lead Span 14.2mm, IPC High Density)
footprint TS3B_M (D2-PAK, 4-Leads, Body 8.6x10.2mm, Pitch 2.54mm, Lead Span 14.2mm, IPC Low Density)
pins: 1 IN (power), 2 GND (power), 3 OUT (power), 4 TAB (power)

## LM340K-12
designator U?
Series 3-Terminal Positive Regulators, 3-pin TO-3; PartNumber: LM340K-12; Manufacturer: National Semiconductor; PackageTopMarking: NS*ZXYTTE#*LM340K*12 7812P+; CompType: LDO IC; Published: 4-Dec-2008; DatasheetVersion: Jul-2006; PackageVersion: revG, Oct-1991; PackageReference: K02A; Publisher: Altium Limited; PackageDescription: Metal Can (KA) TO-3, 2 Lead; Supplier 1: Farnell; Supplier Part Number 1: 1216182; RoHS: O; PinCount: 2; ComponentLink1Description: LM340 Datasheet; ComponentLink1URL: http://www.national.com/ds/LM/LM340.pdf; ComponentLink2Description: LM340 Web Page; ComponentLink2URL: http://www.national.com/pf/LM/LM340.html; ComponentLink3Description: K02A Package Page; ComponentLink3URL: http://www.national.com/packaging/folders/k02a.html
footprint K02A (Oval Flange Mount with (2) Offset Leads; Pin Spacing 10.93 mm; Lead Dia. 1.09 mm (max))
pins: 1 IN (power), 2 OUT (power), 3 GND (power)

## LM394BH
designator U?
Supermatch Pair, 6-pin TO-99; PartNumber: LM394BH; Manufacturer: National Semiconductor; PackageTopMarking: NSZXYTTE# LM394BH; PowerWise: N; CompType: Amplifiers; High-Reliability: Y; Published: 4-Dec-2008; DatasheetVersion: Dec-1994; PackageVersion: revE, Jun-1995; PackageReference: H06C; Publisher: Altium Limited; PackageDescription: Metal Can, TO-99, 6 Lead, .200in Dia P.C.; RoHS: N; PinCount: 6; Code_JEDEC: TO-99; ComponentLink1Description: LM394 Datasheet; ComponentLink1URL: http://www.national.com/ds/LM/LM394.pdf; ComponentLink2Description: LM394 Web Page; ComponentLink2URL: http://www.national.com/pf/LM/LM394.html; ComponentLink3Description: H06C package page; ComponentLink3URL: http://www.national.com/packaging/folders/h06c.html
footprint H06C (Can; 8 Leads (2 Absent); Pin Circle Dia. 5.08 mm; Lead Dia. 0.48 mm (max))
part A pins: 1 C, 2 B, 3 E
part B pins: 4 E, 5 B, 6 C

## LM394CH
designator U?
Supermatch Pair, 6-pin TO-99; PartNumber: LM394CH; Manufacturer: National Semiconductor; PackageTopMarking: NSZXYTTE# LM394CH; PowerWise: N; CompType: Amplifiers; High-Reliability: Y; Published: 4-Dec-2008; DatasheetVersion: Dec-1994; PackageVersion: revE, Jun-1995; PackageReference: H06C; Publisher: Altium Limited; PackageDescription: Metal Can, TO-99, 6 Lead, .200in Dia P.C.; Supplier 1: Farnell; Supplier Part Number 1: 1216171; RoHS: N; PinCount: 6; Code_JEDEC: TO-99; ComponentLink1Description: LM394 Datasheet; ComponentLink1URL: http://www.national.com/ds/LM/LM394.pdf; ComponentLink2Description: LM394 Web Page; ComponentLink2URL: http://www.national.com/pf/LM/LM394.html; ComponentLink3Description: H06C package page; ComponentLink3URL: http://www.national.com/packaging/folders/h06c.html
footprint H06C (Can; 8 Leads (2 Absent); Pin Circle Dia. 5.08 mm; Lead Dia. 0.48 mm (max))
part A pins: 1 C, 2 B, 3 E
part B pins: 4 E, 5 B, 6 C

## LM394H
designator U?
Supermatch Pair, 6-pin TO-99; PartNumber: LM394H; Manufacturer: National Semiconductor; PackageTopMarking: NSZXYTTE# LM394H; PowerWise: N; CompType: Amplifiers; High-Reliability: Y; Published: 4-Dec-2008; DatasheetVersion: Dec-1994; PackageVersion: revE, Jun-1995; PackageReference: H06C; Publisher: Altium Limited; PackageDescription: Metal Can, TO-99, 6 Lead, .200in Dia P.C.; Supplier 1: Farnell; Supplier Part Number 1: 1216172; RoHS: N; PinCount: 6; Code_JEDEC: TO-99; ComponentLink1Description: LM394 Datasheet; ComponentLink1URL: http://www.national.com/ds/LM/LM394.pdf; ComponentLink2Description: LM394 Web Page; ComponentLink2URL: http://www.national.com/pf/LM/LM394.html; ComponentLink3Description: H06C package page; ComponentLink3URL: http://www.national.com/packaging/folders/h06c.html
footprint H06C (Can; 8 Leads (2 Absent); Pin Circle Dia. 5.08 mm; Lead Dia. 0.48 mm (max))
part A pins: 1 C, 2 B, 3 E
part B pins: 4 E, 5 B, 6 C

## LM431BIZ
designator U?
Adjustable Precision Zener Shunt Regulator, 3-pin TO-92; PartNumber: LM431BIZ; Manufacturer: National Semiconductor; PackageTopMarking: NSXYTT*LM431*BIZ; CompType: MiscPower; Published: 4-Dec-2008; DatasheetVersion: Mar-2005; PackageVersion: revG, Sep-2000; PackageReference: Z03A; Publisher: Altium Limited; PackageDescription: TO-92, Molded, 3 Lead; RoHS: Y; PinCount: 3; Code_JEDEC: TO-226-AA; ComponentLink1Description: LM431 Datasheet; ComponentLink1URL: http://www.national.com/ds/LM/LM431.pdf; ComponentLink2Description: LM431 Web Page; ComponentLink2URL: http://www.national.com/pf/LM/LM431.html; ComponentLink3Description: Z03A Package Page; ComponentLink3URL: http://www.national.com/packaging/folders/z03a.html
footprint Z03A (TO, Flat Index; 3 In-Line, Axial Leads; Body Dia. 5mm; Leads 0.55 x 0.50 mm (max))
pins: 1 REF (in), 2 A, 3 K

## LM431CCM
designator U?
Adjustable Precision Zener Shunt Regulator, 8-pin Narrow SOIC; PartNumber: LM431CCM; Manufacturer: National Semiconductor; PackageTopMarking: NSZXTT*431*CCM; CompType: MiscPower; Published: 4-Dec-2008; DatasheetVersion: Mar-2005; PackageVersion: revM, May-2009; PackageReference: M08A; Publisher: Altium Limited; PackageDescription: SOIC Narrow, 4.9 x 3.9 x 1.45mm, 8 Lead, 1.27mm Pitch; Supplier 1: Digi-Key; Supplier Part Number 1: LM431CCM-ND; RoHS: Y; PinCount: 8; Code_JEDEC: MS-012-AA; Code_IPC: SOIC127P600-8; ComponentLink1Description: LM431 Datasheet; ComponentLink1URL: http://www.national.com/ds/LM/LM431.pdf; ComponentLink2Description: LM431 Web Page; ComponentLink2URL: http://www.national.com/pf/LM/LM431.html; ComponentLink3Description: M08A Package Page; ComponentLink3URL: http://www.national.com/packaging/folders/m08a.html
footprint M08A_N (SOIC, 8-Leads, Body 4.9x3.9mm, Pitch 1.27mm, IPC Medium Density)
footprint M08A_L (SOIC, 8-Leads, Body 4.9x3.9mm, Pitch 1.27mm, IPC High Density)
footprint M08A_M (SOIC, 8-Leads, Body 4.9x3.9mm, Pitch 1.27mm, IPC Low Density)
pins: 1 K, 2 A, 3 A, 4 NC, 5 NC, 6 A, 7 A, 8 REF (in)

## LM431CCZ
designator U?
Adjustable Precision Zener Shunt Regulator, 3-pin TO-92; PartNumber: LM431CCZ; Manufacturer: National Semiconductor; PackageTopMarking: NSXYTT*LM431*CCZ; CompType: MiscPower; Published: 4-Dec-2008; DatasheetVersion: Mar-2005; PackageVersion: revG, Sep-2000; PackageReference: Z03A; Publisher: Altium Limited; PackageDescription: TO-92, Molded, 3 Lead; RoHS: O; PinCount: 3; Code_JEDEC: TO-226-AA; ComponentLink1Description: LM431 Datasheet; ComponentLink1URL: http://www.national.com/ds/LM/LM431.pdf; ComponentLink2Description: LM431 Web Page; ComponentLink2URL: http://www.national.com/pf/LM/LM431.html; ComponentLink3Description: Z03A Package Page; ComponentLink3URL: http://www.national.com/packaging/folders/z03a.html
footprint Z03A (TO, Flat Index; 3 In-Line, Axial Leads; Body Dia. 5mm; Leads 0.55 x 0.50 mm (max))
pins: 1 REF (in), 2 A, 3 K

## LM725CN
designator U?
Operational Amplifier, 8-pin MDIP; PartNumber: LM725CN; Manufacturer: National Semiconductor; PackageTopMarking: NSUZXYTT*LM*725CN; CompType: Amplifiers; Published: 4-Dec-2008; DatasheetVersion: Aug-2000; PackageVersion: revG, May-2006; PackageReference: N08E; Publisher: Altium Limited; PackageDescription: MDIP, .365 x .250 x .130in, 8 Lead, .100in Pitch; Supplier 1: Farnell; Supplier Part Number 1: 9487158; RoHS: O; PinCount: 8; Code_JEDEC: MS-001-BA; ComponentLink1Description: LM725 Datasheet; ComponentLink1URL: http://www.national.com/ds/LM/LM725.pdf; ComponentLink2Description: LM725 Web Page; ComponentLink2URL: http://www.national.com/pf/LM/LM725.html; ComponentLink3Description: N08E Package Page; ComponentLink3URL: http://www.national.com/packaging/folders/n08e.html
footprint N08E (DIP, 8-Leads, Row Spacing 7.62mm, Pitch 2.54mm, Body 9.91x6.35mm)
pins: 1 OFS NULL, 2 IN- (in), 3 IN+ (in), 4 V- (power), 5 COMP, 6 OUT (out), 7 V+ (power), 8 OFS NULL

## LM741WG/883
designator U?
Operational Amplifier, 10-pin CerPACK; PartNumber: LM741WG/883; Manufacturer: National Semiconductor; PackageTopMarking: NS*ZSSXXYYA*LM741WG/*883 Q; CompType: Amplifiers; Published: 4-Dec-2008; DatasheetVersion: Aug-2000; PackageVersion: revF, Oct-2008; PackageReference: WG10A; Publisher: Altium Limited; PackageDescription: Cerpack, .270 x .241 x .070in, 10 Lead, .050in Pitch, Gull Wing; RoHS: N; PinCount: 10; ComponentLink1Description: LM741 Datasheet; ComponentLink1URL: http://www.national.com/ds/LM/LM741.pdf; ComponentLink2Description: LM741 Web Page; ComponentLink2URL: http://www.national.com/pf/LM/LM741.html; ComponentLink3Description: WG10A Package Page; ComponentLink3URL: http://www.national.com/packaging/folders/wg10a.html
footprint WG10A_N (CERPACK, 10-Leads, Body 6.9x6.3mm, Pitch 1.27mm, IPC Medium Density)
footprint WG10A_L (CERPACK, 10-Leads, Body 6.9x6.3mm, Pitch 1.27mm, IPC High Density)
footprint WG10A_M (CERPACK, 10-Leads, Body 6.9x6.3mm, Pitch 1.27mm, IPC Low Density)
part A pins: 3 IN- (in), 4 IN+ (in), 5 V- (power), 7 OUT (out), 8 V+ (power)
part B pins: 1 NC, 2 OFS NULL, 6 OFS NULL, 9 NC, 10 NC

## LM747H
designator U?
Dual Operational Amplifier, 10-pin TO-100; PartNumber: LM747H; Manufacturer: National Semiconductor; PackageTopMarking: NSZXYTTE# LM747H; CompType: Amplifiers; Published: 4-Dec-2008; DatasheetVersion: Nov-1994; PackageVersion: revG, Nov-2008; PackageReference: H10C; Publisher: Altium Limited; PackageDescription: Metal Can, TO-100, 10 Lead, .230in Dia, P.C.; Supplier 1: Digi-Key; Supplier Part Number 1: LM747H-ND; RoHS: O; PinCount: 10; ComponentLink1Description: LM747 Datasheet; ComponentLink1URL: http://www.national.com/ds/LM/LM747.pdf; ComponentLink2Description: LM747 Web Page; ComponentLink2URL: http://www.national.com/pf/LM/LM747.html; ComponentLink3Description: H10C Package Page; ComponentLink3URL: http://www.national.com/packaging/folders/h10c.html
footprint H10C (Can; 10 Leads; Pin Circle Dia. 5.84 mm; Lead Dia. 0.48 mm (max))
simulation model LM741 (SUBCKT)
pins on every part: 5 V- (power)
part A pins: 1 OUTA (out), 2 VA+ (power), 3 INA- (in), 4 INA+ (in)
part B pins: 6 INB+ (in), 7 INB- (in), 8 VB+ (power), 9 OUTB (out)
part C pins: 10 NC

## LM809M3-2.45
designator U?
Microprocessor Reset Circuit, 2.45V Threshold, 3-pin SOT-23; PartNumber: LM809M3-2.45; Manufacturer: National Semiconductor; PackageTopMarking: SFB*XTT; PowerWise: N; CompType: MiscPower; Published: 29-May-2009; DatasheetVersion: Sep-2002; PackageVersion: revB, Mar-2003; PackageReference: MF03A; Publisher: Altium Limited; PackageDescription: Molded SOT-23, .115 x .051 x .037in Body, 3 Lead, .075 in Pitch; RoHS: O; PinCount: 3; ComponentLink1Description: LM809 Datasheet; ComponentLink1URL: http://www.national.com/ds/LM/LM809.pdf; ComponentLink2Description: LM809 Web Page; ComponentLink2URL: http://www.national.com/mpf/LM/LM809.html; ComponentLink3Description: MF03A Package Page; ComponentLink3URL: http://www.national.com/packaging/folders/mf03a.html
footprint MF03A_N (SOT23, 3-Leads, Body 2.9x1.3mm, Pitch 0.95mm, Lead Span 2.4mm, IPC Medium Density)
footprint MF03A_L (SOT23, 3-Leads, Body 2.9x1.3mm, Pitch 0.95mm, Lead Span 2.4mm, IPC High Density)
footprint MF03A_M (SOT23, 3-Leads, Body 2.9x1.3mm, Pitch 0.95mm, Lead Span 2.4mm, IPC Low Density)
pins: 1 GND (power), 2 ~{RST} (out), 3 VCC (power)

## LM809M3-4.00
designator U?
Microprocessor Reset Circuit, 4.00V Threshold, 3-pin SOT-23; PartNumber: LM809M3-4.00; Manufacturer: National Semiconductor; PackageTopMarking: S6B*XTT; PowerWise: N; CompType: MiscPower; Published: 4-Dec-2008; DatasheetVersion: Sep-2002; PackageVersion: revB, Mar-2003; PackageReference: MF03A; Publisher: Altium Limited; PackageDescription: Molded SOT-23, .115 x .051 x .037in Body, 3 Lead, .075 in Pitch; Supplier 1: Farnell; Supplier Part Number 1: 9778632; RoHS: Y; PinCount: 3; ComponentLink1Description: LM809 Datasheet; ComponentLink1URL: http://www.national.com/ds/LM/LM809.pdf; ComponentLink2Description: LM809 Web Page; ComponentLink2URL: http://www.national.com/mpf/LM/LM809.html; ComponentLink3Description: MF03A Package Page; ComponentLink3URL: http://www.national.com/packaging/folders/mf03a.html
footprint MF03A_N (SOT23, 3-Leads, Body 2.9x1.3mm, Pitch 0.95mm, Lead Span 2.4mm, IPC Medium Density)
footprint MF03A_L (SOT23, 3-Leads, Body 2.9x1.3mm, Pitch 0.95mm, Lead Span 2.4mm, IPC High Density)
footprint MF03A_M (SOT23, 3-Leads, Body 2.9x1.3mm, Pitch 0.95mm, Lead Span 2.4mm, IPC Low Density)
pins: 1 GND (power), 2 ~{RST} (out), 3 VCC (power)